# EAGLE library part PSD813F (library wafer-scale-psd)
WAFER SCALE INTEGRATION
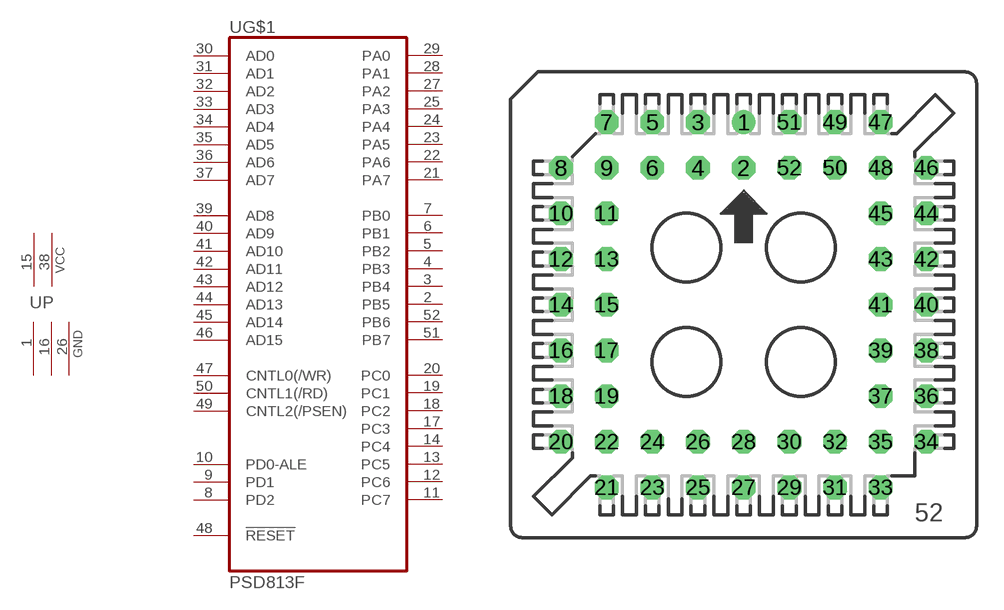
[diagram p84: symbol with the pads of S52; footprint S52]

Designator prefix U; gates G$1=PSD813 P=2VCC3GND

## PSD813F  [S52]
1  P:GND  pwr
2  G$1:PB5  out
3  G$1:PB4  out
4  G$1:PB3  out
5  G$1:PB2  out
6  G$1:PB1  out
7  G$1:PB0  out
8  G$1:PD2  out
9  G$1:PD1  out
10  G$1:PD0-ALE  out
11  G$1:PC7  in
12  G$1:PC6  in
13  G$1:PC5  in
14  G$1:PC4  in
15  P:VCC  pwr
16  P:GND  pwr
17  G$1:PC3  in
18  G$1:PC2  in
19  G$1:PC1  in
20  G$1:PC0  in
21  G$1:PA7
22  G$1:PA6
23  G$1:PA5
24  G$1:PA4
25  G$1:PA3
26  P:GND  pwr
27  G$1:PA2
28  G$1:PA1
29  G$1:PA0
30  G$1:AD0  in
31  G$1:AD1  in
32  G$1:AD2  in
33  G$1:AD3  in
34  G$1:AD4  in
35  G$1:AD5  in
36  G$1:AD6  in
37  G$1:AD7  in
38  P:VCC  pwr
39  G$1:AD8  in
40  G$1:AD9  in
41  G$1:AD10  in
42  G$1:AD11  in
43  G$1:AD12  in
44  G$1:AD13  in
45  G$1:AD14  in
46  G$1:AD15  in
47  G$1:CNTL0(/WR)  in
48  G$1:!RESET!  in
49  G$1:CNTL2(/PSEN)  in
50  G$1:CNTL1(/RD)  in
51  G$1:PB7  out
52  G$1:PB6  out

## Footprint S52 (pad centres in mm)
PLCC SOCKET
drill 0.813: 1 0,10.16
drill 0.813 octagon: 2 0,7.62; 3 -2.54,10.16; 4 -2.54,7.62; 5 -5.08,10.16; 6 -5.08,7.62; 7 -7.62,10.16; 8 -10.16,7.62; 9 -7.62,7.62; 10 -10.16,5.08; 11 -7.62,5.08; 12 -10.16,2.54; 13 -7.62,2.54; 14 -10.16,0; 15 -7.62,0; 16 -10.16,-2.54; 17 -7.62,-2.54; 18 -10.16,-5.08; 19 -7.62,-5.08; 20 -10.16,-7.62; 21 -7.62,-10.16; 22 -7.62,-7.62; 23 -5.08,-10.16; 24 -5.08,-7.62; 25 -2.54,-10.16; 26 -2.54,-7.62; 27 0,-10.16; 28 0,-7.62; 29 2.54,-10.16; 30 2.54,-7.62; 31 5.08,-10.16; 32 5.08,-7.62; 33 7.62,-10.16; 34 10.16,-7.62; 35 7.62,-7.62; 36 10.16,-5.08; 37 7.62,-5.08; 38 10.16,-2.54; 39 7.62,-2.54; 40 10.16,0; 41 7.62,0; 42 10.16,2.54; 43 7.62,2.54; 44 10.16,5.08; 45 7.62,5.08; 46 10.16,7.62; 47 7.62,10.16; 48 7.62,7.62; 49 5.08,10.16; 50 5.08,7.62; 51 2.54,10.16; 52 2.54,7.62